# EAGLE library part ATTINY85_WIDE (library zkseagle)
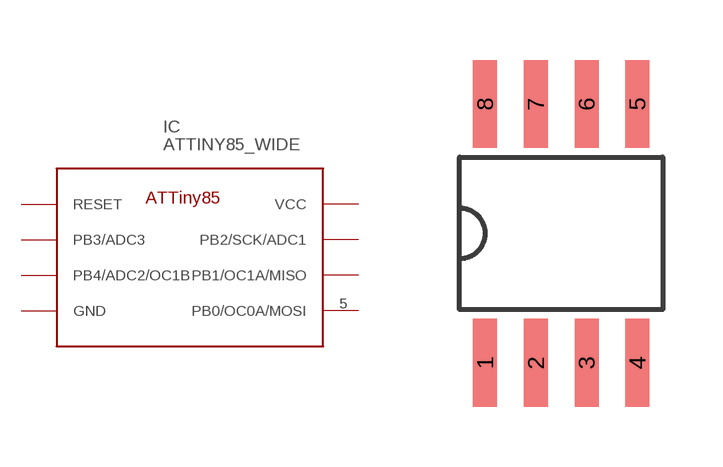
[diagram p30: symbol with the pads of SO8_WIDE_P; footprint SO8_WIDE_P]

Designator prefix IC

## ATTINY85_WIDE  [SO8_WIDE_P]
1  RESET
2  PB3/ADC3
3  PB4/ADC2/OC1B
4  GND  pwr
5  PB0/OC0A/MOSI
6  PB1/OC1A/MISO
7  PB2/SCK/ADC1
8  VCC  sup

## Footprint SO8_WIDE_P (pad centres in mm)
SMALL OUTLINE INTEGRATED CIRCUIT SOP-8L Source: http://www.diodes.com/datasheets/ds31262.pdf
smd 0.6 x 2.2: 1 0,-0.06; 2 1.27,-0.06; 3 2.54,-0.06; 4 3.81,-0.06; 5 3.81,6.41; 6 2.54,6.41; 7 1.27,6.41; 8 0,6.41